# Altium footprint library PcbLib1.PcbLib: 1 footprints
Each footprint in its own frame and in the unit in brackets; x right, y up, seen from the top. Pads: shape width x height; smd on the part's side, far side on the other; paste and mask are expansions set on the pad; w line width, h text height; cw(c..) or ccw(c..) is an arc to the next point about the centre after c.
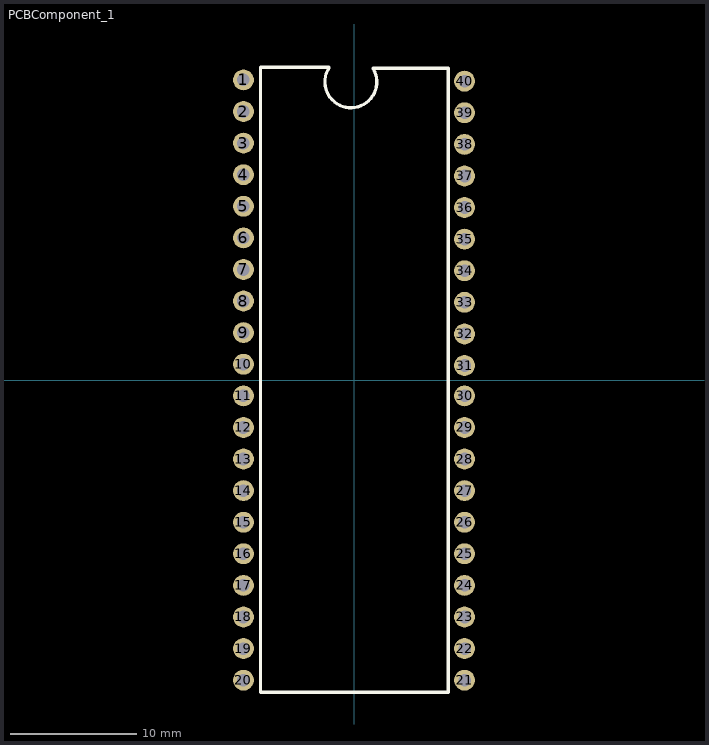
[diagram p0: the footprint, top view; thin cyan lines are the x and y axes]

## PCBComponent_1 [mm]
pads (40):
  round 1.65 hole 1: 1(-8.75,23.75) 2(-8.75,21.25) 3(-8.75,18.75) 4(-8.75,16.25) 5(-8.75,13.75) 6(-8.75,11.25) 7(-8.75,8.75) 8(-8.75,6.25) 9(-8.75,3.75) 10(-8.75,1.25) 11(-8.75,-1.25) 12(-8.75,-3.75) 13(-8.75,-6.25) 14(-8.75,-8.75) 15(-8.75,-11.25) 16(-8.75,-13.75) 17(-8.75,-16.25) 18(-8.75,-18.75) 19(-8.75,-21.25) 20(-8.75,-23.75) 21(8.75,-23.75) 22(8.75,-21.25) 23(8.75,-18.75) 24(8.75,-16.25) 25(8.75,-13.75) 26(8.75,-11.25) 27(8.75,-8.75) 28(8.75,-6.25) 29(8.75,-3.75) 30(8.75,-1.25) 31(8.75,1.15) 32(8.75,3.65) 33(8.75,6.15) 34(8.75,8.65) 35(8.75,11.15) 36(8.75,13.65) 37(8.75,16.15) 38(8.75,18.65) 39(8.75,21.15) 40(8.75,23.65)
Top Overlay:
  lines w0.254: -1.988,24.698 ccw(c-0.25,23.6) 1.526,24.636 ; -1.988,24.75 -7.4,24.75 -7.4,-24.7 7.45,-24.7 7.45,24.65 ; 1.526,24.68 3.43,24.68 7.45,24.68